# Altium schematic symbol library MR26.SCHLIB: 82 symbols (part 4 of 4)
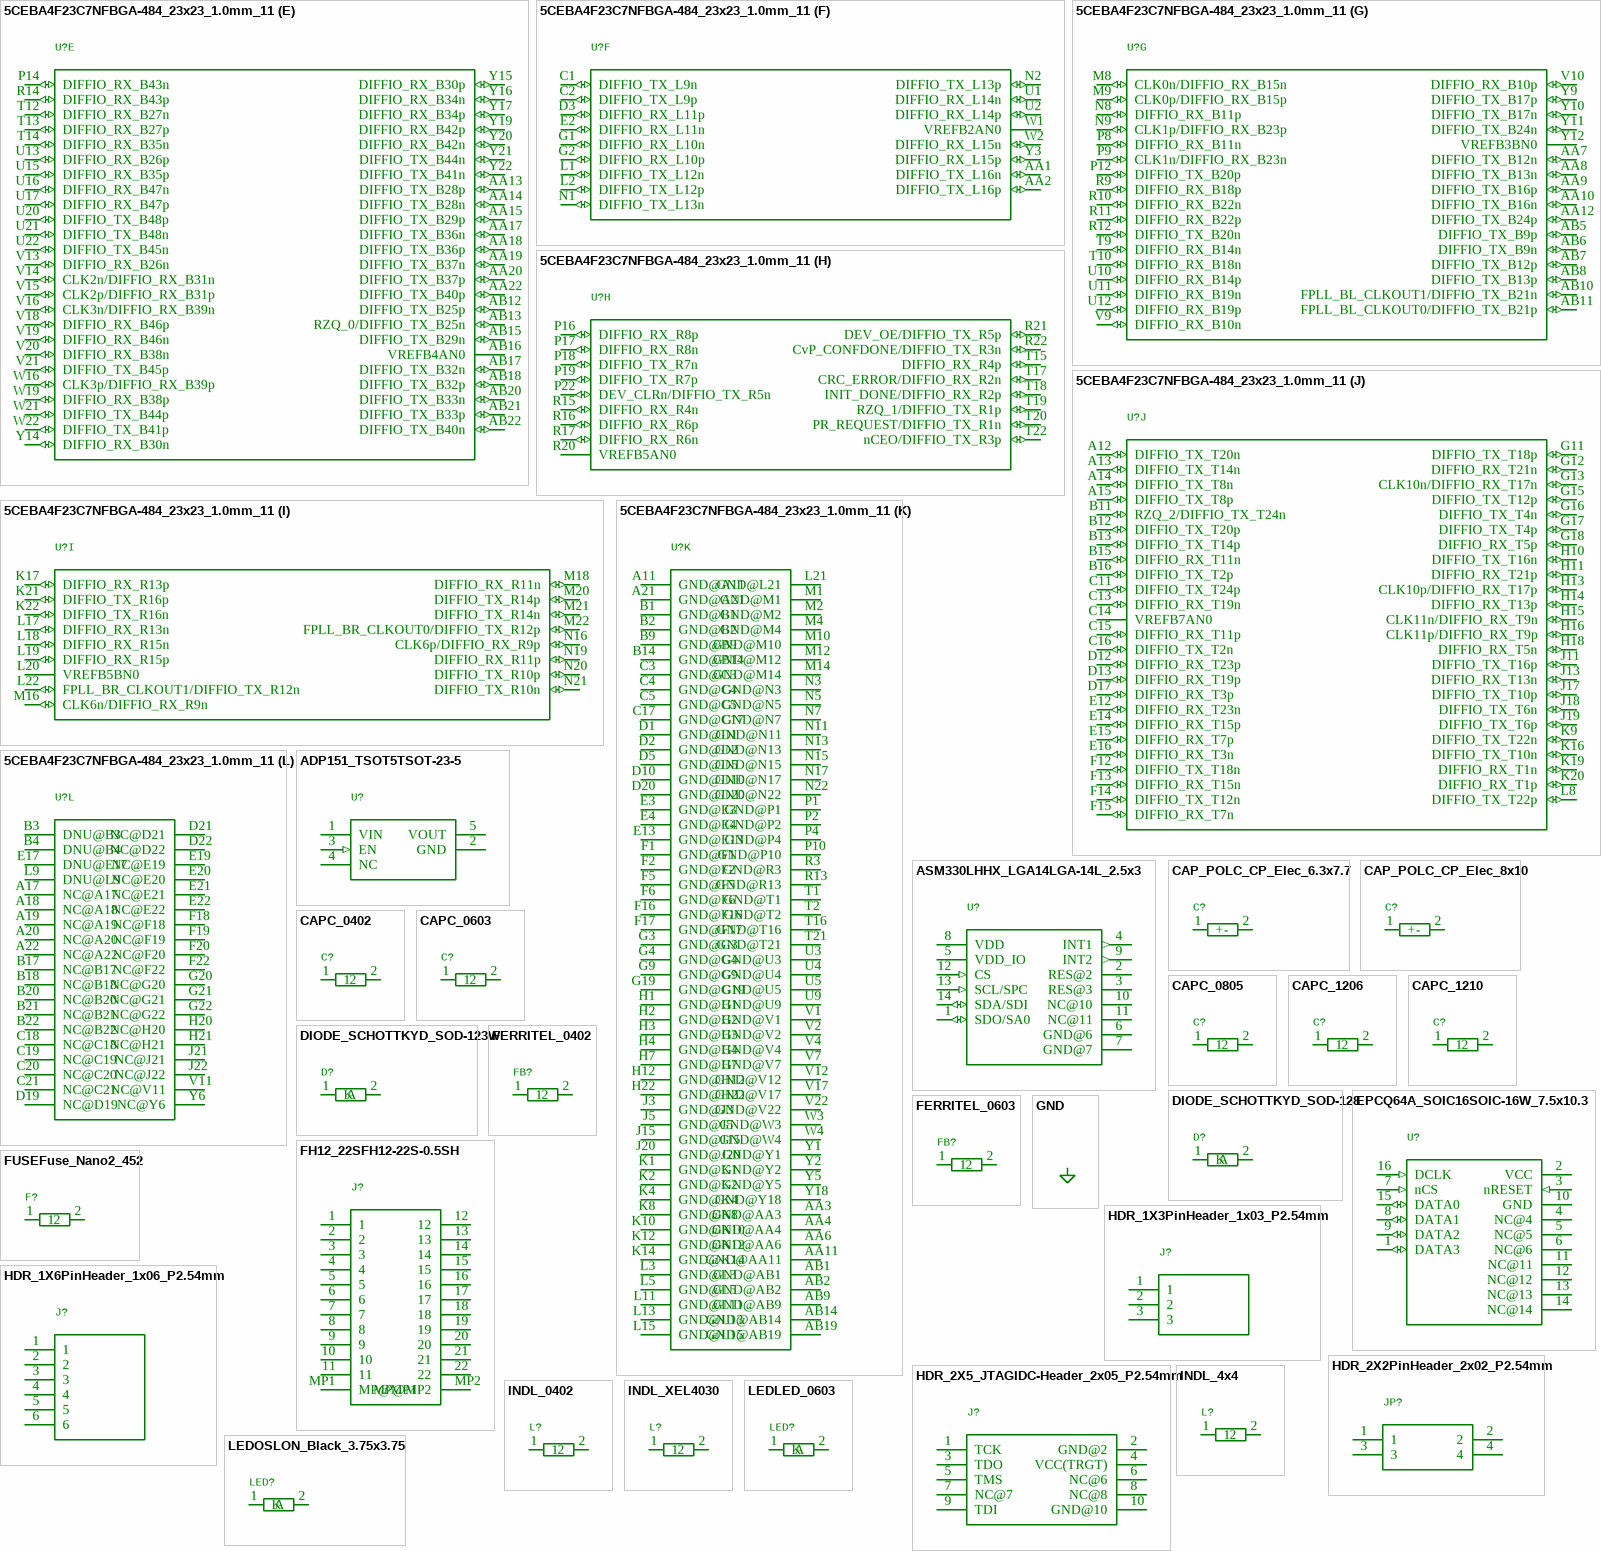
[diagram p21: symbols 5CEBA4F23C7NFBGA-484_23x23_1.0mm_11 to LEDOSLON_Black_3.75x3.75]

## DIODE_SCHOTTKYD_SOD-123W
designator D?
GateName_1: G$1; SymbolName_1: DIODE_SCHOTTKY; DeviceName: D_SOD-123W; LibraryName: MR26; DeviceSetName: DIODE_SCHOTTKY; Package: D_SOD-123W
footprint D_SOD-123W
pins: 1 K, 2 A

## DIODE_SCHOTTKYD_SOD-128
designator D?
GateName_1: G$1; SymbolName_1: DIODE_SCHOTTKY; DeviceName: D_SOD-128; LibraryName: MR26; DeviceSetName: DIODE_SCHOTTKY; Package: D_SOD-128
footprint D_SOD-128
pins: 1 K, 2 A

## EPCQ64A_SOIC16SOIC-16W_7.5x10.3
designator U?
GateName_1: G$1; SymbolName_1: EPCQ64A_SOIC16; DeviceName: SOIC-16W_7.5x10.3; LibraryName: MR26; DeviceSetName: EPCQ64A_SOIC16; Package: SOIC-16W_7.5x10.3
footprint SOIC-16W_7.5x10.3
pins: 1 DATA3 (io), 2 VCC (power), 3 nRESET (in), 4 NC@4, 5 NC@5, 6 NC@6, 7 nCS (in), 8 DATA1 (io), 9 DATA2 (io), 10 GND (power), 11 NC@11, 12 NC@12, 13 NC@13, 14 NC@14, 15 DATA0 (io), 16 DCLK (in)

## FERRITEL_0402
designator FB?
GateName_1: G$1; SymbolName_1: FERRITE; DeviceName: L_0402; LibraryName: MR26; DeviceSetName: FERRITE; Package: L_0402
footprint L_0402
pins: 1, 2

## FERRITEL_0603
designator FB?
GateName_1: G$1; SymbolName_1: FERRITE; DeviceName: L_0603; LibraryName: MR26; DeviceSetName: FERRITE; Package: L_0603
footprint L_0603
pins: 1, 2

## FH12_22SFH12-22S-0.5SH
designator J?
GateName_1: G$1; SymbolName_1: FH12_22S; DeviceName: FH12-22S-0.5SH; LibraryName: MR26; DeviceSetName: FH12_22S; Package: FH12-22S-0.5SH
footprint FH12-22S-0.5SH
pins: 1, 2, 3, 4, 5, 6, 7, 8, 9, 10, 11, 12, 13, 14, 15, 16, 17, 18, 19, 20, 21, 22, MP1 MP@MP1, MP2 MP@MP2

## FUSEFuse_Nano2_452
designator F?
GateName_1: G$1; SymbolName_1: FUSE; DeviceName: Fuse_Nano2_452; LibraryName: MR26; DeviceSetName: FUSE; Package: Fuse_Nano2_452
footprint Fuse_Nano2_452
pins: 1, 2

## GND
designator PWR?
GateName_1: G$1; SymbolName_1: GND; LibraryName: MR26; DeviceSetName: GND
pins: ?1 GND (power)

## HDR_1X3PinHeader_1x03_P2.54mm
designator J?
GateName_1: G$1; SymbolName_1: HDR_1X3; DeviceName: PinHeader_1x03_P2.54mm; LibraryName: MR26; DeviceSetName: HDR_1X3; Package: PinHeader_1x03_P2.54mm
footprint PinHeader_1x03_P2.54mm
pins: 1, 2, 3

## HDR_1X6PinHeader_1x06_P2.54mm
designator J?
GateName_1: G$1; SymbolName_1: HDR_1X6; DeviceName: PinHeader_1x06_P2.54mm; LibraryName: MR26; DeviceSetName: HDR_1X6; Package: PinHeader_1x06_P2.54mm
footprint PinHeader_1x06_P2.54mm
pins: 1, 2, 3, 4, 5, 6

## HDR_2X2PinHeader_2x02_P2.54mm
designator JP?
GateName_1: G$1; SymbolName_1: HDR_2X2; DeviceName: PinHeader_2x02_P2.54mm; LibraryName: MR26; DeviceSetName: HDR_2X2; Package: PinHeader_2x02_P2.54mm
footprint PinHeader_2x02_P2.54mm
pins: 1, 2, 3, 4

## HDR_2X5_JTAGIDC-Header_2x05_P2.54mm
designator J?
GateName_1: G$1; SymbolName_1: HDR_2X5_JTAG; DeviceName: IDC-Header_2x05_P2.54mm; LibraryName: MR26; DeviceSetName: HDR_2X5_JTAG; Package: IDC-Header_2x05_P2.54mm
footprint IDC-Header_2x05_P2.54mm
pins: 1 TCK, 2 GND@2, 3 TDO, 4 VCC(TRGT), 5 TMS, 6 NC@6, 7 NC@7, 8 NC@8, 9 TDI, 10 GND@10

## INDL_4x4
designator L?
GateName_1: G$1; SymbolName_1: IND; DeviceName: L_4x4; LibraryName: MR26; DeviceSetName: IND; Package: L_4x4
footprint L_4x4
pins: 1, 2

## INDL_0402
designator L?
GateName_1: G$1; SymbolName_1: IND; DeviceName: L_0402; LibraryName: MR26; DeviceSetName: IND; Package: L_0402
footprint L_0402
pins: 1, 2

## INDL_XEL4030
designator L?
GateName_1: G$1; SymbolName_1: IND; DeviceName: L_XEL4030; LibraryName: MR26; DeviceSetName: IND; Package: L_XEL4030
footprint L_XEL4030
pins: 1, 2

## LEDLED_0603
designator LED?
GateName_1: G$1; SymbolName_1: LED; DeviceName: LED_0603; LibraryName: MR26; DeviceSetName: LED; Package: LED_0603
footprint LED_0603
pins: 1 K, 2 A

## LEDOSLON_Black_3.75x3.75
designator LED?
GateName_1: G$1; SymbolName_1: LED; DeviceName: OSLON_Black_3.75x3.75; LibraryName: MR26; DeviceSetName: LED; Package: OSLON_Black_3.75x3.75
footprint OSLON_Black_3.75x3.75
pins: 1 K, 2 A

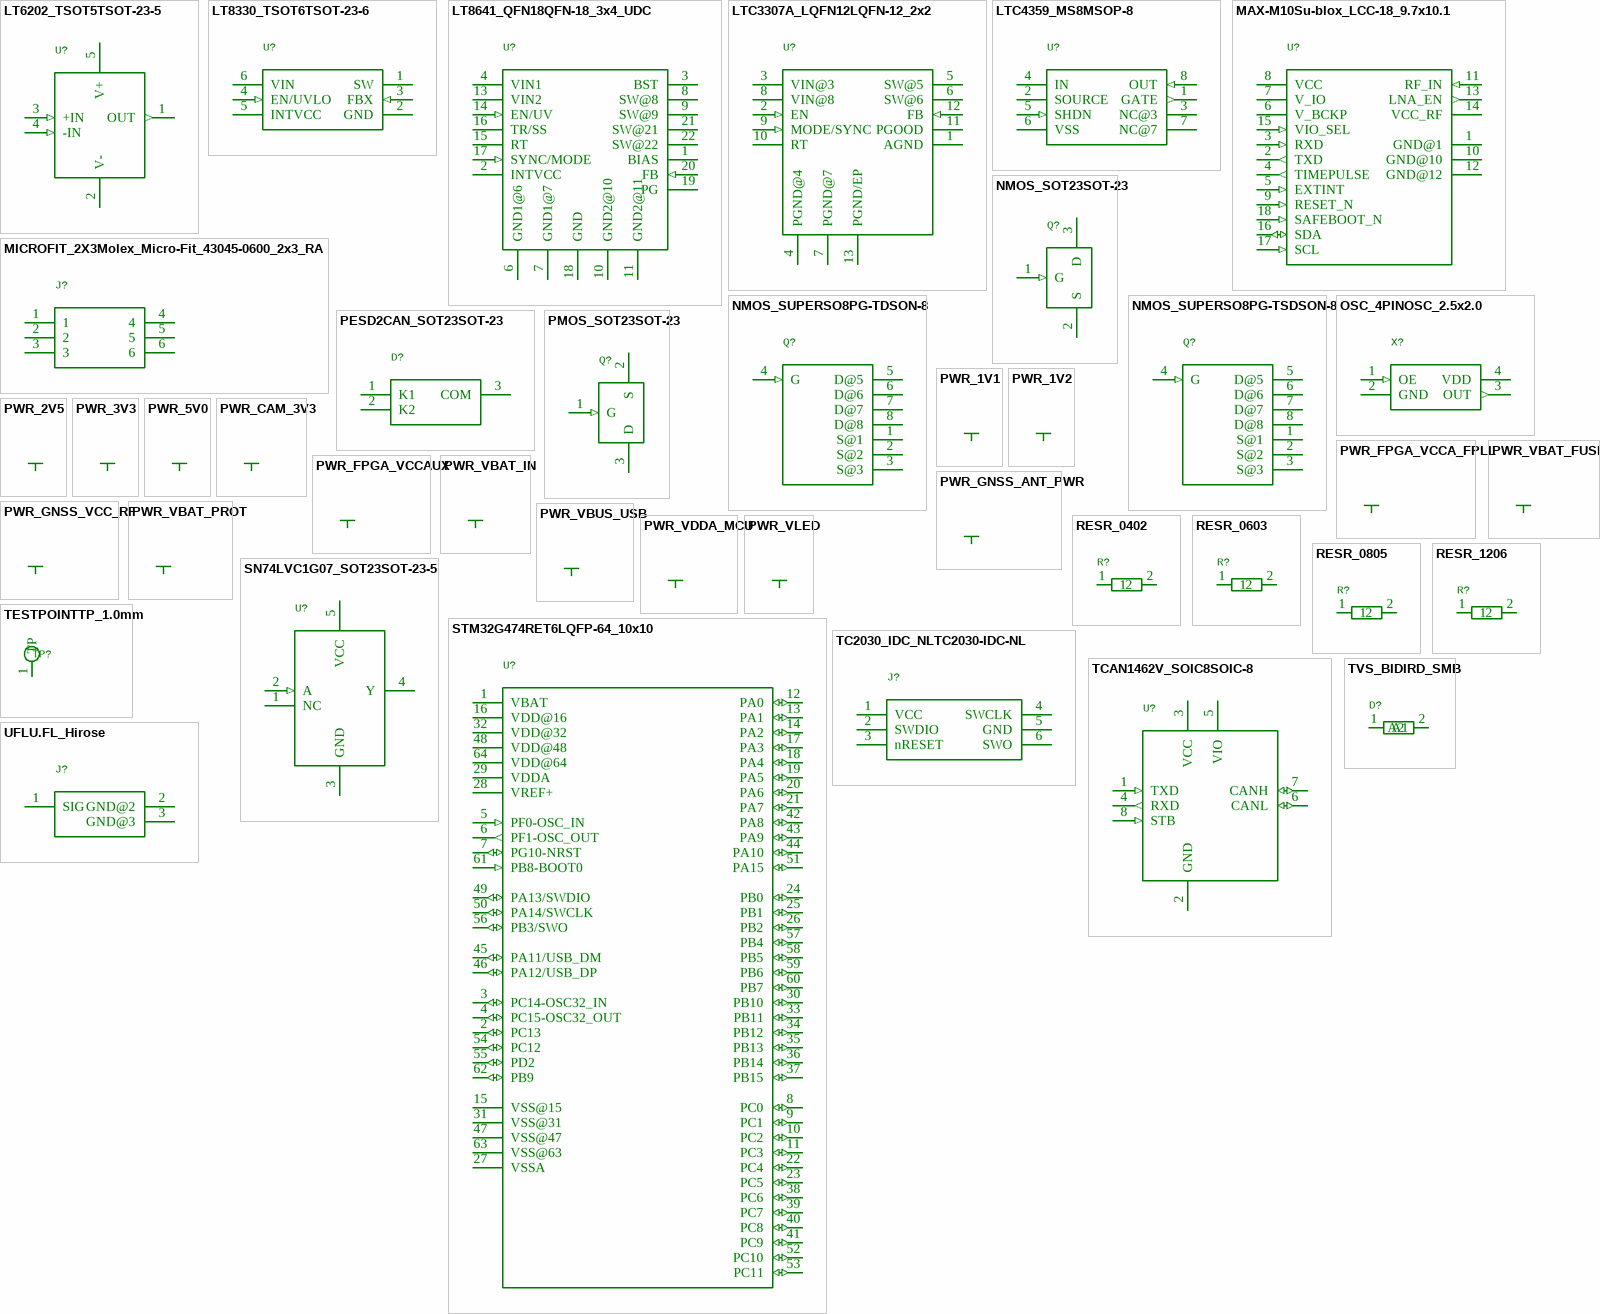
[diagram p17: symbols LT6202_TSOT5TSOT-23-5 to UFLU.FL_Hirose]

## LT6202_TSOT5TSOT-23-5
designator U?
GateName_1: G$1; SymbolName_1: LT6202_TSOT5; DeviceName: TSOT-23-5; LibraryName: MR26; DeviceSetName: LT6202_TSOT5; Package: TSOT-23-5
footprint TSOT-23-5
pins: 1 OUT (out), 2 V- (power), 3 +IN (in), 4 -IN (in), 5 V+ (power)

## LT8330_TSOT6TSOT-23-6
designator U?
GateName_1: G$1; SymbolName_1: LT8330_TSOT6; DeviceName: TSOT-23-6; LibraryName: MR26; DeviceSetName: LT8330_TSOT6; Package: TSOT-23-6
footprint TSOT-23-6
pins: 1 SW (power), 2 GND (power), 3 FBX (in), 4 EN/UVLO (in), 5 INTVCC (power), 6 VIN (power)

## LT8641_QFN18QFN-18_3x4_UDC
designator U?
GateName_1: G$1; SymbolName_1: LT8641_QFN18; DeviceName: QFN-18_3x4_UDC; LibraryName: MR26; DeviceSetName: LT8641_QFN18; Package: QFN-18_3x4_UDC
footprint QFN-18_3x4_UDC
pins: 1 BIAS (power), 2 INTVCC (power), 3 BST, 4 VIN1 (power), 6 GND1@6 (power), 7 GND1@7 (power), 8 SW@8 (power), 9 SW@9 (power), 10 GND2@10 (power), 11 GND2@11 (power), 13 VIN2 (power), 14 EN/UV (in), 15 RT, 16 TR/SS, 17 SYNC/MODE (in), 18 GND (power), 19 PG (oc), 20 FB (in), 21 SW@21 (power), 22 SW@22 (power)

## LTC3307A_LQFN12LQFN-12_2x2
designator U?
GateName_1: G$1; SymbolName_1: LTC3307A_LQFN12; DeviceName: LQFN-12_2x2; LibraryName: MR26; DeviceSetName: LTC3307A_LQFN12; Package: LQFN-12_2x2
footprint LQFN-12_2x2
pins: 1 AGND (power), 2 EN (in), 3 VIN@3 (power), 4 PGND@4 (power), 5 SW@5 (power), 6 SW@6 (power), 7 PGND@7 (power), 8 VIN@8 (power), 9 MODE/SYNC (in), 10 RT, 11 PGOOD (oc), 12 FB (in), 13 PGND/EP (power)

## LTC4359_MS8MSOP-8
designator U?
GateName_1: G$1; SymbolName_1: LTC4359_MS8; DeviceName: MSOP-8; LibraryName: MR26; DeviceSetName: LTC4359_MS8; Package: MSOP-8
footprint MSOP-8
pins: 1 GATE (out), 2 SOURCE, 3 NC@3, 4 IN (power), 5 SHDN (in), 6 VSS (power), 7 NC@7, 8 OUT (in)

## MAX-M10Su-blox_LCC-18_9.7x10.1
designator U?
GateName_1: G$1; SymbolName_1: MAX-M10S; DeviceName: u-blox_LCC-18_9.7x10.1; LibraryName: MR26; DeviceSetName: MAX-M10S; Package: u-blox_LCC-18_9.7x10.1
footprint u-blox_LCC-18_9.7x10.1
pins: 1 GND@1 (power), 2 TXD (out), 3 RXD (in), 4 TIMEPULSE (out), 5 EXTINT (in), 6 V_BCKP (power), 7 V_IO (power), 8 VCC (power), 9 RESET_N (in), 10 GND@10 (power), 11 RF_IN (in), 12 GND@12 (power), 13 LNA_EN (out), 14 VCC_RF (power), 15 VIO_SEL (in), 16 SDA (io), 17 SCL (in), 18 SAFEBOOT_N (in)

## MICROFIT_2X3Molex_Micro-Fit_43045-0600_2x3_RA
designator J?
GateName_1: G$1; SymbolName_1: MICROFIT_2X3; DeviceName: Molex_Micro-Fit_43045-0600_2x3_RA; LibraryName: MR26; DeviceSetName: MICROFIT_2X3; Package: Molex_Micro-Fit_43045-0600_2x3_RA
footprint Molex_Micro-Fit_43045-0600_2x3_RA
pins: 1, 2, 3, 4, 5, 6

## NMOS_SOT23SOT-23
designator Q?
GateName_1: G$1; SymbolName_1: NMOS_SOT23; DeviceName: SOT-23; LibraryName: MR26; DeviceSetName: NMOS_SOT23; Package: SOT-23
footprint SOT-23
pins: 1 G (in), 2 S, 3 D

## NMOS_SUPERSO8PG-TDSON-8
designator Q?
GateName_1: G$1; SymbolName_1: NMOS_SUPERSO8; DeviceName: PG-TDSON-8; LibraryName: MR26; DeviceSetName: NMOS_SUPERSO8; Package: PG-TDSON-8
footprint PG-TDSON-8
pins: 1 S@1, 2 S@2, 3 S@3, 4 G (in), 5 D@5, 6 D@6, 7 D@7, 8 D@8

## NMOS_SUPERSO8PG-TSDSON-8
designator Q?
GateName_1: G$1; SymbolName_1: NMOS_SUPERSO8; DeviceName: PG-TSDSON-8; LibraryName: MR26; DeviceSetName: NMOS_SUPERSO8; Package: PG-TSDSON-8
footprint PG-TSDSON-8
pins: 1 S@1, 2 S@2, 3 S@3, 4 G (in), 5 D@5, 6 D@6, 7 D@7, 8 D@8

## OSC_4PINOSC_2.5x2.0
designator X?
GateName_1: G$1; SymbolName_1: OSC_4PIN; DeviceName: OSC_2.5x2.0; LibraryName: MR26; DeviceSetName: OSC_4PIN; Package: OSC_2.5x2.0
footprint OSC_2.5x2.0
pins: 1 OE (in), 2 GND (power), 3 OUT (out), 4 VDD (power)

## PESD2CAN_SOT23SOT-23
designator D?
GateName_1: G$1; SymbolName_1: PESD2CAN_SOT23; DeviceName: SOT-23; LibraryName: MR26; DeviceSetName: PESD2CAN_SOT23; Package: SOT-23
footprint SOT-23
pins: 1 K1, 2 K2, 3 COM

## PMOS_SOT23SOT-23
designator Q?
GateName_1: G$1; SymbolName_1: PMOS_SOT23; DeviceName: SOT-23; LibraryName: MR26; DeviceSetName: PMOS_SOT23; Package: SOT-23
footprint SOT-23
pins: 1 G (in), 2 S, 3 D

## PWR_1V1
designator PWR?
GateName_1: G$1; SymbolName_1: PWR_1V1; LibraryName: MR26; DeviceSetName: PWR_1V1
pins: ?1 1V1 (power)

## PWR_1V2
designator PWR?
GateName_1: G$1; SymbolName_1: PWR_1V2; LibraryName: MR26; DeviceSetName: PWR_1V2
pins: ?1 1V2 (power)

## PWR_2V5
designator PWR?
GateName_1: G$1; SymbolName_1: PWR_2V5; LibraryName: MR26; DeviceSetName: PWR_2V5
pins: ?1 2V5 (power)

## PWR_3V3
designator PWR?
GateName_1: G$1; SymbolName_1: PWR_3V3; LibraryName: MR26; DeviceSetName: PWR_3V3
pins: ?1 3V3 (power)

## PWR_5V0
designator PWR?
GateName_1: G$1; SymbolName_1: PWR_5V0; LibraryName: MR26; DeviceSetName: PWR_5V0
pins: ?1 5V0 (power)

## PWR_CAM_3V3
designator PWR?
GateName_1: G$1; SymbolName_1: PWR_CAM_3V3; LibraryName: MR26; DeviceSetName: PWR_CAM_3V3
pins: ?1 CAM_3V3 (power)

## PWR_FPGA_VCCA_FPLL
designator PWR?
GateName_1: G$1; SymbolName_1: PWR_FPGA_VCCA_FPLL; LibraryName: MR26; DeviceSetName: PWR_FPGA_VCCA_FPLL
pins: ?1 FPGA_VCCA_FPLL (power)

## PWR_FPGA_VCCAUX
designator PWR?
GateName_1: G$1; SymbolName_1: PWR_FPGA_VCCAUX; LibraryName: MR26; DeviceSetName: PWR_FPGA_VCCAUX
pins: ?1 FPGA_VCCAUX (power)

## PWR_GNSS_ANT_PWR
designator PWR?
GateName_1: G$1; SymbolName_1: PWR_GNSS_ANT_PWR; LibraryName: MR26; DeviceSetName: PWR_GNSS_ANT_PWR
pins: ?1 GNSS_ANT_PWR (power)

## PWR_GNSS_VCC_RF
designator PWR?
GateName_1: G$1; SymbolName_1: PWR_GNSS_VCC_RF; LibraryName: MR26; DeviceSetName: PWR_GNSS_VCC_RF
pins: ?1 GNSS_VCC_RF (power)

## PWR_VBAT_FUSED
designator PWR?
GateName_1: G$1; SymbolName_1: PWR_VBAT_FUSED; LibraryName: MR26; DeviceSetName: PWR_VBAT_FUSED
pins: ?1 VBAT_FUSED (power)

## PWR_VBAT_IN
designator PWR?
GateName_1: G$1; SymbolName_1: PWR_VBAT_IN; LibraryName: MR26; DeviceSetName: PWR_VBAT_IN
pins: ?1 VBAT_IN (power)

## PWR_VBAT_PROT
designator PWR?
GateName_1: G$1; SymbolName_1: PWR_VBAT_PROT; LibraryName: MR26; DeviceSetName: PWR_VBAT_PROT
pins: ?1 VBAT_PROT (power)

## PWR_VBUS_USB
designator PWR?
GateName_1: G$1; SymbolName_1: PWR_VBUS_USB; LibraryName: MR26; DeviceSetName: PWR_VBUS_USB
pins: ?1 VBUS_USB (power)

## PWR_VDDA_MCU
designator PWR?
GateName_1: G$1; SymbolName_1: PWR_VDDA_MCU; LibraryName: MR26; DeviceSetName: PWR_VDDA_MCU
pins: ?1 VDDA_MCU (power)

## PWR_VLED
designator PWR?
GateName_1: G$1; SymbolName_1: PWR_VLED; LibraryName: MR26; DeviceSetName: PWR_VLED
pins: ?1 VLED (power)

## RESR_0402
designator R?
GateName_1: G$1; SymbolName_1: RES; DeviceName: R_0402; LibraryName: MR26; DeviceSetName: RES; Package: R_0402
footprint R_0402
pins: 1, 2

## RESR_0603
designator R?
GateName_1: G$1; SymbolName_1: RES; DeviceName: R_0603; LibraryName: MR26; DeviceSetName: RES; Package: R_0603
footprint R_0603
pins: 1, 2

## RESR_0805
designator R?
GateName_1: G$1; SymbolName_1: RES; DeviceName: R_0805; LibraryName: MR26; DeviceSetName: RES; Package: R_0805
footprint R_0805
pins: 1, 2

## RESR_1206
designator R?
GateName_1: G$1; SymbolName_1: RES; DeviceName: R_1206; LibraryName: MR26; DeviceSetName: RES; Package: R_1206
footprint R_1206
pins: 1, 2

## SN74LVC1G07_SOT23SOT-23-5
designator U?
GateName_1: G$1; SymbolName_1: SN74LVC1G07_SOT23; DeviceName: SOT-23-5; LibraryName: MR26; DeviceSetName: SN74LVC1G07_SOT23; Package: SOT-23-5
footprint SOT-23-5
pins: 1 NC, 2 A (in), 3 GND (power), 4 Y (oc), 5 VCC (power)

## STM32G474RET6LQFP-64_10x10
designator U?
GateName_1: G$1; SymbolName_1: STM32G474RET6; DeviceName: LQFP-64_10x10; LibraryName: MR26; DeviceSetName: STM32G474RET6; Package: LQFP-64_10x10
footprint LQFP-64_10x10
pins: 1 VBAT (power), 2 PC13 (io), 3 PC14-OSC32_IN (io), 4 PC15-OSC32_OUT (io), 5 PF0-OSC_IN (in), 6 PF1-OSC_OUT (out), 7 PG10-NRST (io), 8 PC0 (io), 9 PC1 (io), 10 PC2 (io), 11 PC3 (io), 12 PA0 (io), 13 PA1 (io), 14 PA2 (io), 15 VSS@15 (power), 16 VDD@16 (power), 17 PA3 (io), 18 PA4 (io), 19 PA5 (io), 20 PA6 (io), 21 PA7 (io), 22 PC4 (io), 23 PC5 (io), 24 PB0 (io), 25 PB1 (io), 26 PB2 (io), 27 VSSA (power), 28 VREF+ (power), 29 VDDA (power), 30 PB10 (io), 31 VSS@31 (power), 32 VDD@32 (power), 33 PB11 (io), 34 PB12 (io), 35 PB13 (io), 36 PB14 (io), 37 PB15 (io), 38 PC6 (io), 39 PC7 (io), 40 PC8 (io), 41 PC9 (io), 42 PA8 (io), 43 PA9 (io), 44 PA10 (io), 45 PA11/USB_DM (io), 46 PA12/USB_DP (io), 47 VSS@47 (power), 48 VDD@48 (power), 49 PA13/SWDIO (io), 50 PA14/SWCLK (io), 51 PA15 (io), 52 PC10 (io), 53 PC11 (io), 54 PC12 (io), 55 PD2 (io), 56 PB3/SWO (io), 57 PB4 (io), 58 PB5 (io), 59 PB6 (io), 60 PB7 (io), 61 PB8-BOOT0 (in), 62 PB9 (io), 63 VSS@63 (power), 64 VDD@64 (power)

## TC2030_IDC_NLTC2030-IDC-NL
designator J?
GateName_1: G$1; SymbolName_1: TC2030_IDC_NL; DeviceName: TC2030-IDC-NL; LibraryName: MR26; DeviceSetName: TC2030_IDC_NL; Package: TC2030-IDC-NL
footprint TC2030-IDC-NL
pins: 1 VCC, 2 SWDIO, 3 nRESET, 4 SWCLK, 5 GND, 6 SWO

## TCAN1462V_SOIC8SOIC-8
designator U?
GateName_1: G$1; SymbolName_1: TCAN1462V_SOIC8; DeviceName: SOIC-8; LibraryName: MR26; DeviceSetName: TCAN1462V_SOIC8; Package: SOIC-8
footprint SOIC-8
pins: 1 TXD (in), 2 GND (power), 3 VCC (power), 4 RXD (out), 5 VIO (power), 6 CANL (io), 7 CANH (io), 8 STB (in)

## TESTPOINTTP_1.0mm
designator TP?
GateName_1: G$1; SymbolName_1: TESTPOINT; DeviceName: TP_1.0mm; LibraryName: MR26; DeviceSetName: TESTPOINT; Package: TP_1.0mm
footprint TP_1.0mm
pins: 1 TP

## TVS_BIDIRD_SMB
designator D?
GateName_1: G$1; SymbolName_1: TVS_BIDIR; DeviceName: D_SMB; LibraryName: MR26; DeviceSetName: TVS_BIDIR; Package: D_SMB
footprint D_SMB
pins: 1 A1, 2 A2

## UFLU.FL_Hirose
designator J?
GateName_1: G$1; SymbolName_1: UFL; DeviceName: U.FL_Hirose; LibraryName: MR26; DeviceSetName: UFL; Package: U.FL_Hirose
footprint U.FL_Hirose
pins: 1 SIG, 2 GND@2, 3 GND@3

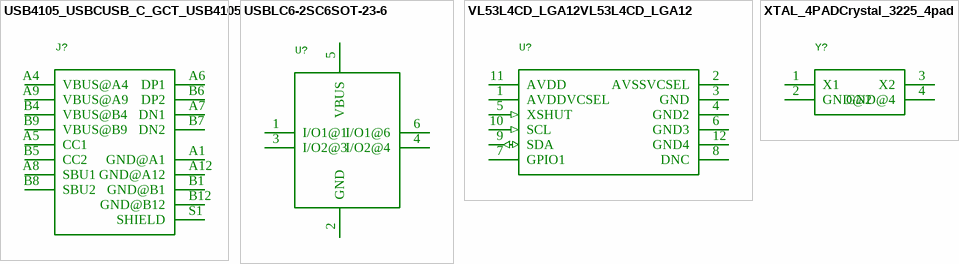
[diagram p18: symbols USB4105_USBCUSB_C_GCT_USB4105 to XTAL_4PADCrystal_3225_4pad]

## USB4105_USBCUSB_C_GCT_USB4105
designator J?
GateName_1: G$1; SymbolName_1: USB4105_USBC; DeviceName: USB_C_GCT_USB4105; LibraryName: MR26; DeviceSetName: USB4105_USBC; Package: USB_C_GCT_USB4105
footprint USB_C_GCT_USB4105
pins: A1 GND@A1, A4 VBUS@A4, A5 CC1, A6 DP1, A7 DN1, A8 SBU1, A9 VBUS@A9, A12 GND@A12, B1 GND@B1, B4 VBUS@B4, B5 CC2, B6 DP2, B7 DN2, B8 SBU2, B9 VBUS@B9, B12 GND@B12, S1 SHIELD

## USBLC6-2SC6SOT-23-6
designator U?
GateName_1: G$1; SymbolName_1: USBLC6-2SC6; DeviceName: SOT-23-6; LibraryName: MR26; DeviceSetName: USBLC6-2SC6; Package: SOT-23-6
footprint SOT-23-6
pins: 1 I/O1@1, 2 GND (power), 3 I/O2@3, 4 I/O2@4, 5 VBUS (power), 6 I/O1@6

## VL53L4CD_LGA12VL53L4CD_LGA12
designator U?
GateName_1: G$1; SymbolName_1: VL53L4CD_LGA12; DeviceName: VL53L4CD_LGA12; LibraryName: MR26; DeviceSetName: VL53L4CD_LGA12; Package: VL53L4CD_LGA12
footprint VL53L4CD_LGA12
pins: 1 AVDDVCSEL (power), 2 AVSSVCSEL (power), 3 GND (power), 4 GND2 (power), 5 XSHUT (in), 6 GND3 (power), 7 GPIO1 (oc), 8 DNC, 9 SDA (io), 10 SCL (in), 11 AVDD (power), 12 GND4 (power)

## XTAL_4PADCrystal_3225_4pad
designator Y?
GateName_1: G$1; SymbolName_1: XTAL_4PAD; DeviceName: Crystal_3225_4pad; LibraryName: MR26; DeviceSetName: XTAL_4PAD; Package: Crystal_3225_4pad
footprint Crystal_3225_4pad
pins: 1 X1, 2 GND@2, 3 X2, 4 GND@4